# EAGLE library part 10090929-S264VLF (library D-Sub Connectors)
CONN D-SUB HD RCPT 26P VERT SLDR Manufacturer's datasheet <https://www.amphenol-icc.com/media/wysiwyg/files/drawing/10090929.pdf>
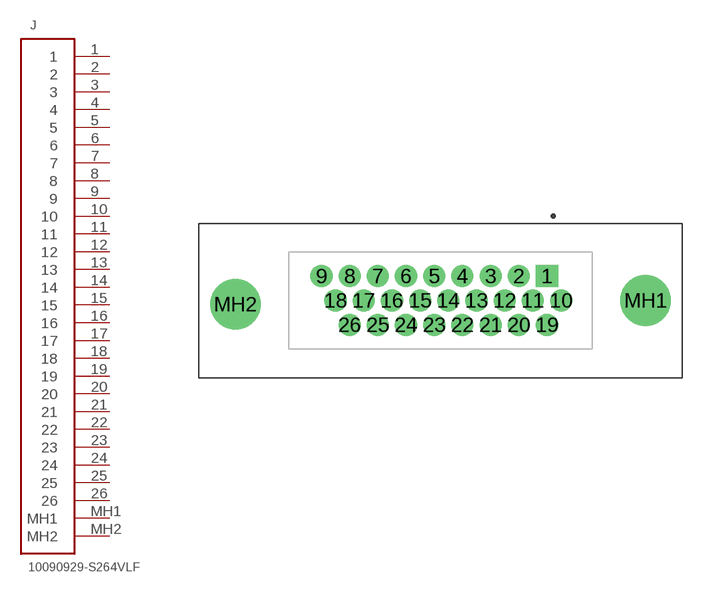
[diagram p1: symbol with the pads of 10090929-S264VLF; footprint 10090929-S264VLF]

Designator prefix J

## 10090929-S264VLF (CREATED_BY: PCBLayout.com; DIGI_KEY_PART_NUMBER: 609-4033-ND; MANUFACTURER: Amphenol ICC (FCI); MPN: 10090929-S264VLF)  [10090929-S264VLF]
1  1  pas
2  2  pas
3  3  pas
4  4  pas
5  5  pas
6  6  pas
7  7  pas
8  8  pas
9  9  pas
10  10  pas
11  11  pas
12  12  pas
13  13  pas
14  14  pas
15  15  pas
16  16  pas
17  17  pas
18  18  pas
19  19  pas
20  20  pas
21  21  pas
22  22  pas
23  23  pas
24  24  pas
25  25  pas
26  26  pas
MH1  MH1  pas
MH2  MH2  pas

## Footprint 10090929-S264VLF (pad centres in mm)
drill 1.2 square: 1 8.65,1.98
drill 1.2: 2 6.36,1.98; 3 4.07,1.98; 4 1.78,1.98; 5 -0.51,1.98; 6 -2.8,1.98; 7 -5.09,1.98; 8 -7.38,1.98; 9 -9.67,1.98; 10 9.795,0; 11 7.505,0; 12 5.215,0; 13 2.925,0; 14 0.635,0; 15 -1.655,0; 16 -3.945,0; 17 -6.235,0; 18 -8.525,0; 19 8.65,-1.98; 20 6.36,-1.98; 21 4.07,-1.98; 22 1.78,-1.98; 23 -0.51,-1.98; 24 -2.8,-1.98; 25 -5.09,-1.98; 26 -7.38,-1.98
drill 3.1: MH1 16.665,0; MH2 -16.66,-0.31